# EAGLE library part MICROMATCH-20 (library con-amp-micromatch)
MicroMaTch 20 9-215464-0 / 2-215464-0 Drawing Number C-215464 DDEController.pdf
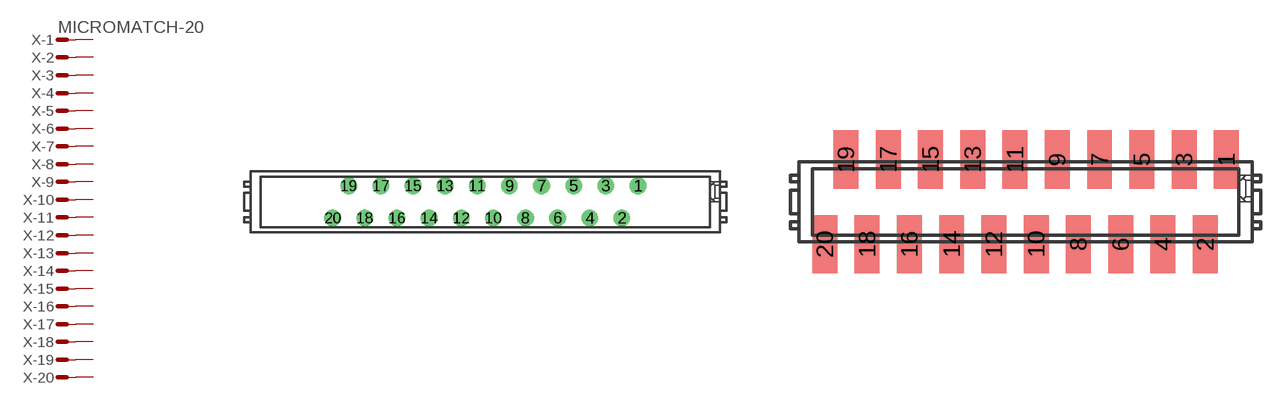
[diagram p0: symbol with the pads of MICROMATCH-20; footprints MICROMATCH-20, MMT-SMD-20]

Designator prefix X; gates -1=MV -2=M -3=M -4=M -5=M -6=M -7=M -8=M -9=M -10=M -11=M -12=M -13=M -14=M -15=M -16=M -17=M -18=M -19=M -20=M

## MICROMATCH-20  [MICROMATCH-20]
1  -1:S  pas
2  -2:S  pas
3  -3:S  pas
4  -4:S  pas
5  -5:S  pas
6  -6:S  pas
7  -7:S  pas
8  -8:S  pas
9  -9:S  pas
10  -10:S  pas
11  -11:S  pas
12  -12:S  pas
13  -13:S  pas
14  -14:S  pas
15  -15:S  pas
16  -16:S  pas
17  -17:S  pas
18  -18:S  pas
19  -19:S  pas
20  -20:S  pas

## MICROMATCH-20SM  [MMT-SMD-20]
Pads as for MICROMATCH-20

## MICROMATCH-20SMF  [MMT-F-SMD-20]
Pads as for MICROMATCH-20

## Footprint MICROMATCH-20 (pad centres in mm)
MicroMaTch 20 9-215464-0 / 2-215464-0 Drawing Number C-215464 DDEController.pdf
drill 0.813 round: 1 12.065,1.27; 2 10.795,-1.27; 3 9.525,1.27; 4 8.255,-1.27; 5 6.985,1.27; 6 5.715,-1.27; 7 4.445,1.27; 8 3.175,-1.27; 9 1.905,1.27; 10 0.635,-1.27; 11 -0.635,1.27; 12 -1.905,-1.27; 13 -3.175,1.27; 14 -4.445,-1.27; 15 -5.715,1.27; 16 -6.985,-1.27; 17 -8.255,1.27; 18 -9.525,-1.27; 19 -10.795,1.27; 20 -12.065,-1.27

## Footprint MMT-SMD-20 (pad centres in mm)
MicroMaTch 20 SMD 7-215464-20
smd 1.5 x 3.5: 1 12.065,2.54; 2 10.795,-2.54; 3 9.525,2.54; 4 8.255,-2.54; 5 6.985,2.54; 6 5.715,-2.54; 7 4.445,2.54; 8 3.175,-2.54; 9 1.905,2.54; 10 0.635,-2.54; 11 -0.635,2.54; 12 -1.905,-2.54; 13 -3.175,2.54; 14 -4.445,-2.54; 15 -5.715,2.54; 16 -6.985,-2.54; 17 -8.255,2.54; 18 -9.525,-2.54; 19 -10.795,2.54; 20 -12.065,-2.54

## Footprint MMT-F-SMD-20 (pad centres in mm)
MicroMaTch 20 SMD 7-215464-20
smd 1.3 x 3.5: 1 12.065,-2.54; 2 10.795,2.54; 3 9.525,-2.54; 4 8.255,2.54; 5 6.985,-2.54; 6 5.715,2.54; 7 4.445,-2.54; 8 3.175,2.54; 9 1.905,-2.54; 10 0.635,2.54; 11 -0.635,-2.54; 12 -1.905,2.54; 13 -3.175,-2.54; 14 -4.445,2.54; 15 -5.715,-2.54; 16 -6.985,2.54; 17 -8.255,-2.54; 18 -9.525,2.54; 19 -10.795,-2.54; 20 -12.065,2.54